# Altium footprint library VQFN16.PcbLib: 1 footprints
Each footprint in its own frame and in the unit in brackets; x right, y up, seen from the top. Pads: shape width x height; smd on the part's side, far side on the other; paste and mask are expansions set on the pad; w line width, h text height; cw(c..) or ccw(c..) is an arc to the next point about the centre after c.
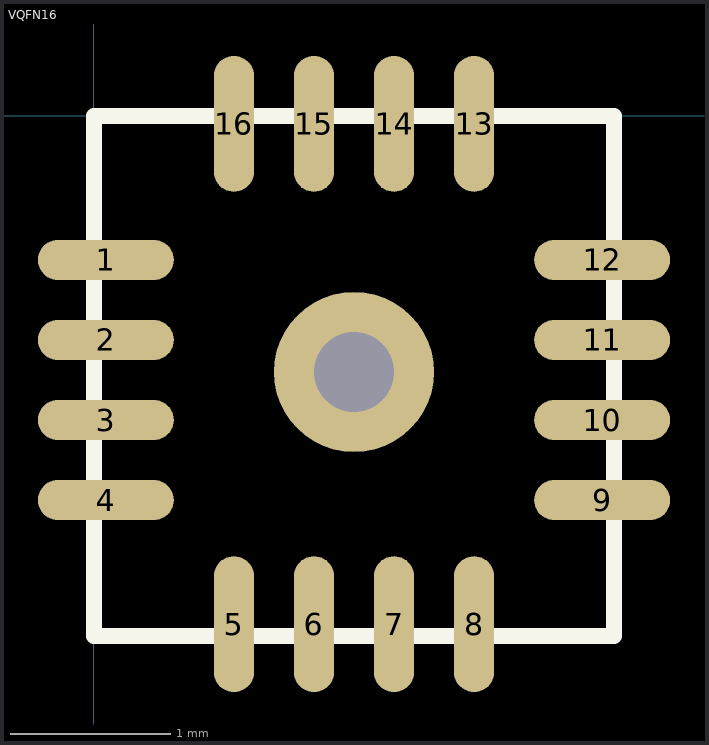
[diagram p0: the footprint, top view; thin cyan lines are the x and y axes]

## VQFN16 [mm]
pads (17):
  oval 0.85x0.25 smd: 1(0.075,-0.9) 2(0.075,-1.4) 3(0.075,-1.9) 4(0.075,-2.4) 9(3.175,-2.4) 10(3.175,-1.9) 11(3.175,-1.4) 12(3.175,-0.9)
  oval 0.25x0.85 smd: 5(0.875,-3.175) 6(1.375,-3.175) 7(1.875,-3.175) 8(2.375,-3.175) 13(2.375,-0.05) 14(1.875,-0.05) 15(1.375,-0.05) 16(0.875,-0.05)
  round 1 hole 0.5: ""(1.625,-1.6)
Top Overlay:
  lines w0.1: 0,-3.25 3.25,-3.25 3.25,0 0,0 0,-3.25
Multi-Layer:
  rectangle: 0.775,-2.475 2.475,-0.775